# Altium schematic symbol library Seven Segment.SchLib: 12 symbols
Pins are listed as number, name and electrical type; pins without a type are passive.

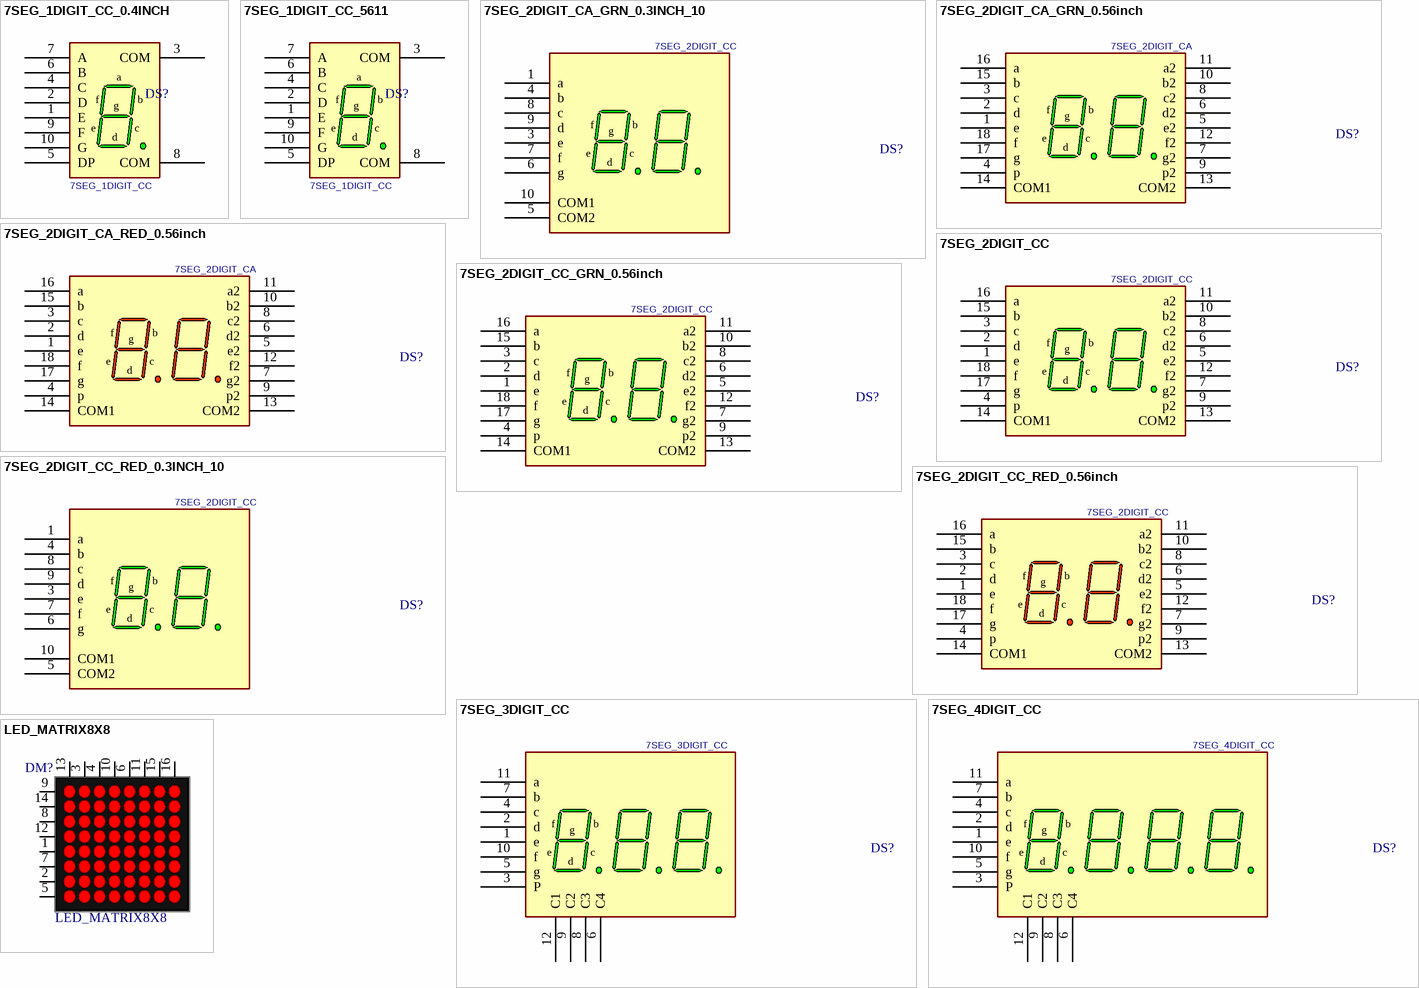
[diagram p0: symbols 7SEG_1DIGIT_CC_0.4INCH to LED_MATRIX8X8]

## 7SEG_1DIGIT_CC_0.4INCH
designator DS?, comment 7SEG_1DIGIT_CC
7SEGMENT, 1DIGIT, common cathode; VALUE: 7SEG_1DIGIT_CC
footprint 7SEGX1_10_3911 (7SEG single 10pin Pitch: 2.54mm  3911 0.39" 10X13mm)
pins: 1 E, 2 D, 3 COM, 4 C, 5 DP, 6 B, 7 A, 8 COM, 9 F, 10 G
2 alternate drawings of the same symbol

## 7SEG_1DIGIT_CC_5611
designator DS?, comment 7SEG_1DIGIT_CC
7SEGMENT, 1DIGIT, common cathode; VALUE: 7SEG_1DIGIT_CC
footprint 7SEGX1_5611 (7SEG single 10pin Pitch: 2.54mm  19X12.5mm)
pins: 1 E, 2 D, 3 COM, 4 C, 5 DP, 6 B, 7 A, 8 COM, 9 F, 10 G
2 alternate drawings of the same symbol

## 7SEG_2DIGIT_CA_GRN_0.3INCH_10
designator DS?, comment 7SEG_2DIGIT_CC
7SEGMENT, 2DIGIT, common cathode; MANF: Kingbright; MANF_P#: DA03-11GWA; PARAM: 10~20mA, 2~2.2V, -40~85oC; PRICE: 1.8$; VALUE: 7SEG_2DIGIT_CC
footprint 7SEGX2_10_03INCH (7SEG 2DIGIT 10pin Pitch: 2.54mm  0.3", 15.5X15mm)
pins: 1 a, 3 e, 4 b, 5 COM2, 6 g, 7 f, 8 c, 9 d, 10 COM1

## 7SEG_2DIGIT_CA_GRN_0.56inch
designator DS?, comment 7SEG_2DIGIT_CA
7SEGMENT, 2DIGIT, common Anode; MANF: Broadcom, Avago, Lite-On, Kingbright; MANF_P#: HDSP-521G, LTD-6410G, DA56-11GWA; PARAM: 10~20mA, 2~2.2V, -35~85oC; PRICE: 2$; VALUE: 7SEG_2DIGIT_CA
footprint 7SEGX2_16 (7SEG 2DIGIT 16pin Pitch: 2.54mm    5621 0.56", 19X25mm)
pins: 1 e, 2 d, 3 c, 4 p, 5 e2, 6 d2, 7 g2, 8 c2, 9 p2, 10 b2, 11 a2, 12 f2, 13 COM2, 14 COM1, 15 b, 16 a, 17 g, 18 f

## 7SEG_2DIGIT_CA_RED_0.56inch
designator DS?, comment 7SEG_2DIGIT_CA
7SEGMENT, 2DIGIT, common Anode; MANF: Broadcom, Avago, Lite-On; MANF_P#: HDSP-521E, LTD-6910HR, LTD-6710P; PARAM: 10~20mA, 2~2.2V, -35~85oC; PRICE: 2$; VALUE: 7SEG_2DIGIT_CA
footprint 7SEGX2_16 (7SEG 2DIGIT 16pin Pitch: 2.54mm    5621 0.56", 19X25mm)
pins: 1 e, 2 d, 3 c, 4 p, 5 e2, 6 d2, 7 g2, 8 c2, 9 p2, 10 b2, 11 a2, 12 f2, 13 COM2, 14 COM1, 15 b, 16 a, 17 g, 18 f

## 7SEG_2DIGIT_CC
designator DS?
7SEGMENT, 2DIGIT, common cathode; VALUE: 7SEG_2DIGIT_CC
footprint 7SEGX2_16 (7SEG 2DIGIT 16pin Pitch: 2.54mm    5621 0.56", 19X25mm)
pins: 1 e, 2 d, 3 c, 4 p, 5 e2, 6 d2, 7 g2, 8 c2, 9 p2, 10 b2, 11 a2, 12 f2, 13 COM2, 14 COM1, 15 b, 16 a, 17 g, 18 f

## 7SEG_2DIGIT_CC_GRN_0.56inch
designator DS?, comment 7SEG_2DIGIT_CC
7SEGMENT, 2DIGIT, common cathode; MANF: Broadcom, Avago; MANF_P#: HDSP-523G; PARAM: 10~20mA, 2~2.2V, -35~85oC; PRICE: 2$; VALUE: 7SEG_2DIGIT_CC
footprint 7SEGX2_16 (7SEG 2DIGIT 16pin Pitch: 2.54mm    5621 0.56", 19X25mm)
pins: 1 e, 2 d, 3 c, 4 p, 5 e2, 6 d2, 7 g2, 8 c2, 9 p2, 10 b2, 11 a2, 12 f2, 13 COM2, 14 COM1, 15 b, 16 a, 17 g, 18 f

## 7SEG_2DIGIT_CC_RED_0.3INCH_10
designator DS?, comment 7SEG_2DIGIT_CC
7SEGMENT, 2DIGIT, common cathode; MANF: Kingbright; MANF_P#: DC03-11EWA; PARAM: 10~20mA, 2~2.2V, -40~85oC; PRICE: 1.8$; VALUE: 7SEG_2DIGIT_CC
footprint 7SEGX2_10_03INCH (7SEG 2DIGIT 10pin Pitch: 2.54mm  0.3", 15.5X15mm)
pins: 1 a, 3 e, 4 b, 5 COM2, 6 g, 7 f, 8 c, 9 d, 10 COM1

## 7SEG_2DIGIT_CC_RED_0.56inch
designator DS?, comment 7SEG_2DIGIT_CC
7SEGMENT, 2DIGIT, common cathode; MANF: Broadcom, Avago; MANF_P#: HDSP-523E; PARAM: 10~20mA, 2~2.2V, -35~85oC; PRICE: 2$; VALUE: 7SEG_2DIGIT_CC
footprint 7SEGX2_16 (7SEG 2DIGIT 16pin Pitch: 2.54mm    5621 0.56", 19X25mm)
pins: 1 e, 2 d, 3 c, 4 p, 5 e2, 6 d2, 7 g2, 8 c2, 9 p2, 10 b2, 11 a2, 12 f2, 13 COM2, 14 COM1, 15 b, 16 a, 17 g, 18 f

## 7SEG_3DIGIT_CC
designator DS?
7SEGMENT, 3DIGIT, common cathode; VALUE: 7SEG_3DIGIT_CC
footprint 7SEGX3_12 (7SEG 3DIGIT 12pin Pitch: 2.54mm  5641 0.56", 19X37.5mm)
pins: 1 e, 2 d, 3 P, 4 c, 5 g, 6 C4, 7 b, 8 C3, 9 C2, 10 f, 11 a, 12 C1

## 7SEG_4DIGIT_CC
designator DS?
7SEGMENT, 4DIGIT, common cathode 5641; MANF_P#: DPY-4CK; VALUE: 7SEG_4DIGIT_CC
footprint 7SEGX4_12 (7SEG 4DIGIT 12pin Pitch: 2.54mm    5641 0.56", 19X50.3mm)
pins: 1 e, 2 d, 3 P, 4 c, 5 g, 6 C4, 7 b, 8 C3, 9 C2, 10 f, 11 a, 12 C1

## LED_MATRIX8X8
designator DM?
VALUE: LED_MATRIX8X8
footprint MATRIX_8X8_3232 (Footprint not found)
footprint MATRIX_8X8_2020 (LED Dot Matrix 8x8 20mmx20mm)
footprint MATRIX_8X8_3838 (LED Dot Matrix 8x8 38mmx38mm)
pins: 1 R5, 2 R7, 3 C2, 4 C3, 5 R8, 6 C5, 7 R6, 8 R3, 9 R1, 10 C4, 11 C6, 12 R4, 13 C1, 14 R2, 15 C7, 16 C8